# Altium schematic symbol library CPU_PowerPC.SchLib: 1 symbol
Pins are listed as number, name and electrical type; pins without a type are passive.

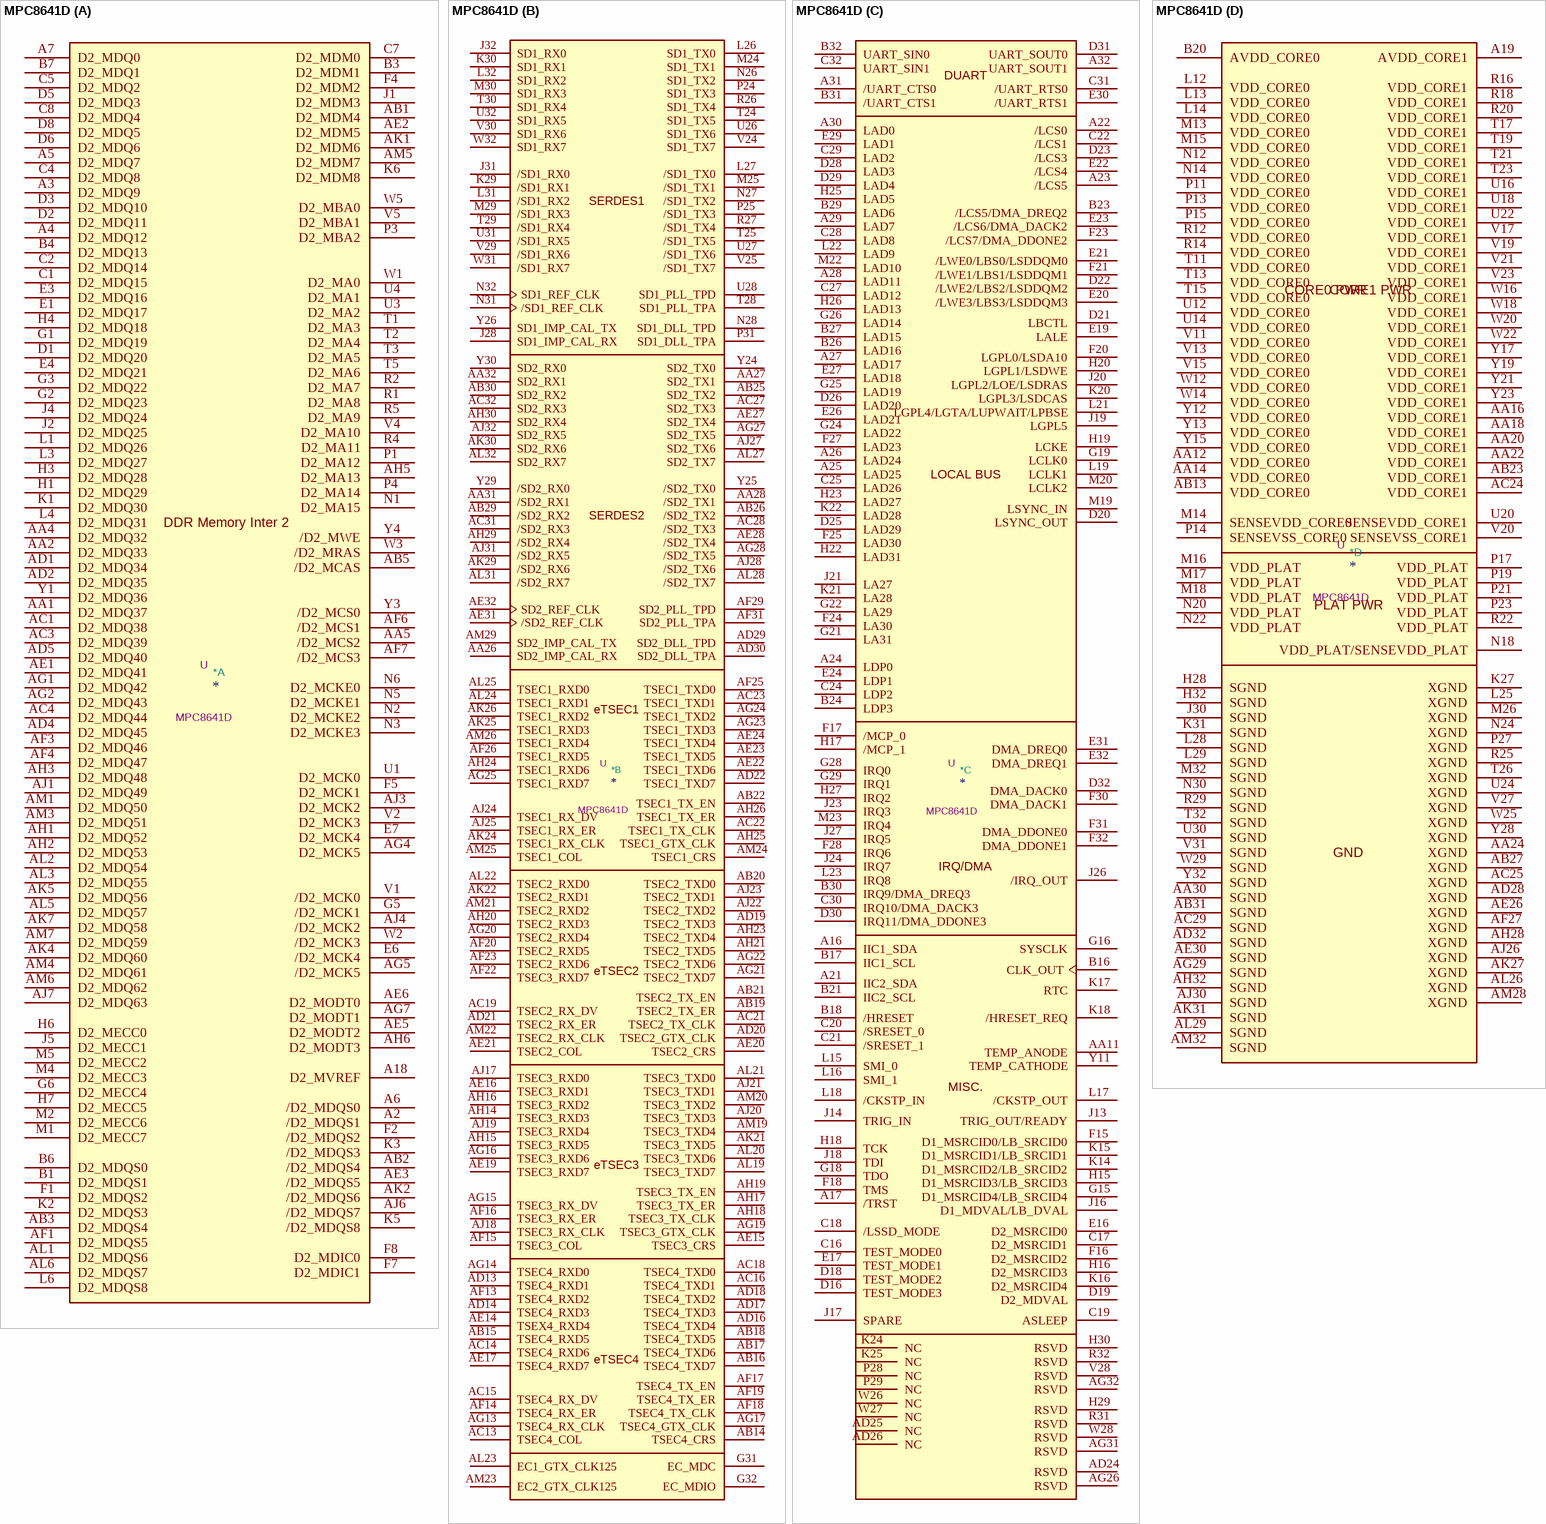
[diagram p0: symbol MPC8641D]

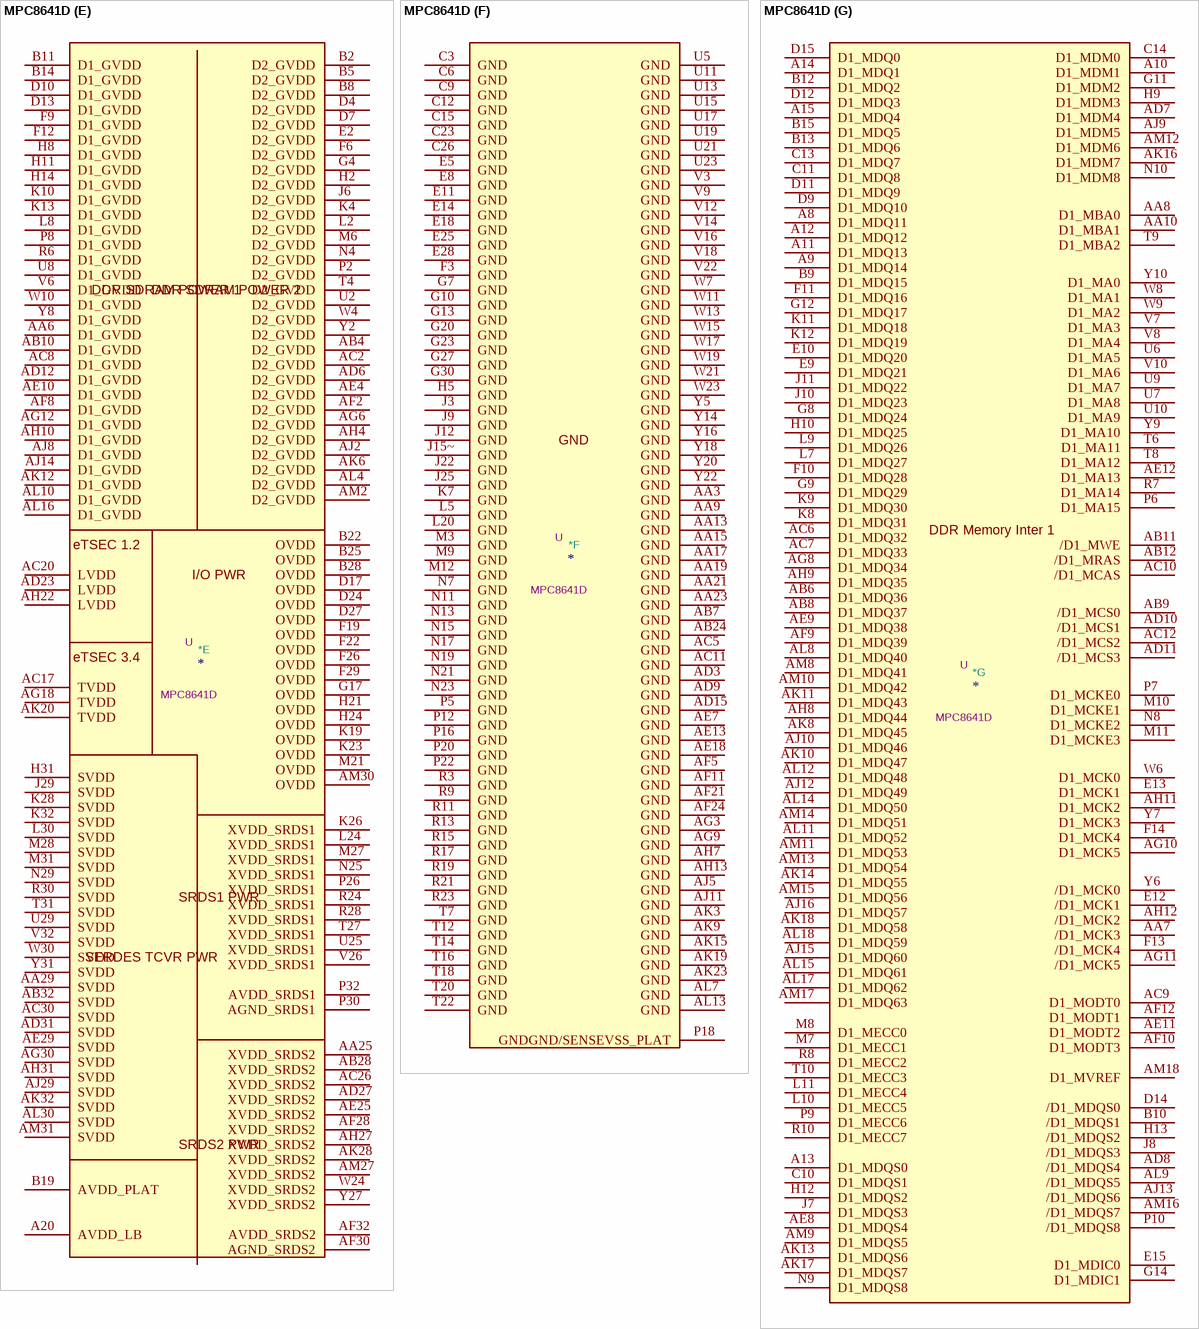
[diagram p1: symbol MPC8641D]

## MPC8641D
designator *  value MPC8641D  Reference: U
Freescale PowerPC E600 core, package BGA1023 pins pitch 1mm; Description_: Freescale PowerPC E600 core, package BGA1023 pins pitch 1mm; ki_keywords: POWERPC
part A pins: A2 /D2_MDQS1, A3 D2_MDQ9, A4 D2_MDQ12, A5 D2_MDQ7, A6 /D2_MDQS0, A7 D2_MDQ0, A18 D2_MVREF, AA1 D2_MDQ37, AA2 D2_MDQ33, AA4 D2_MDQ32, AA5 /D2_MCS2, AB1 D2_MDM4, AB2 /D2_MDQS4, AB3 D2_MDQS4, AB5 /D2_MCAS, AC1 D2_MDQ38, AC3 D2_MDQ39, AC4 D2_MDQ44, AD1 D2_MDQ34, AD2 D2_MDQ35, AD4 D2_MDQ45, AD5 D2_MDQ40, AE1 D2_MDQ41, AE2 D2_MDM5, AE3 /D2_MDQS5, AE5 D2_MODT2, AE6 D2_MODT0, AF1 D2_MDQS5, AF3 D2_MDQ46, AF4 D2_MDQ47, AF6 /D2_MCS1, AF7 /D2_MCS3, AG1 D2_MDQ42, AG2 D2_MDQ43, AG4 D2_MCK5, AG5 /D2_MCK5, AG7 D2_MODT1, AH1 D2_MDQ52, AH2 D2_MDQ53, AH3 D2_MDQ48, AH5 D2_MA13, AH6 D2_MODT3, AJ1 D2_MDQ49, AJ3 D2_MCK2, AJ4 /D2_MCK2, AJ6 /D2_MDQS7, AJ7 D2_MDQ63, AK1 D2_MDM6, AK2 /D2_MDQS6, AK4 D2_MDQ60, AK5 D2_MDQ56, AK7 D2_MDQ58, AL1 D2_MDQS6, AL2 D2_MDQ54, AL3 D2_MDQ55, AL5 D2_MDQ57, AL6 D2_MDQS7, AM1 D2_MDQ50, AM3 D2_MDQ51, AM4 D2_MDQ61, AM5 D2_MDM7, AM6 D2_MDQ62, AM7 D2_MDQ59, B1 D2_MDQS1, B3 D2_MDM1, B4 D2_MDQ13, B6 D2_MDQS0, B7 D2_MDQ1, C1 D2_MDQ15, C2 D2_MDQ14, C4 D2_MDQ8, C5 D2_MDQ2, C7 D2_MDM0, C8 D2_MDQ4, D1 D2_MDQ20, D2 D2_MDQ11, D3 D2_MDQ10, D5 D2_MDQ3, D6 D2_MDQ6, D8 D2_MDQ5, E1 D2_MDQ17, E3 D2_MDQ16, E4 D2_MDQ21, E6 /D2_MCK4, E7 D2_MCK4, F1 D2_MDQS2, F2 /D2_MDQS2, F4 D2_MDM2, F5 D2_MCK1, F7 D2_MDIC1, F8 D2_MDIC0, G1 D2_MDQ19, G2 D2_MDQ23, G3 D2_MDQ22, G5 /D2_MCK1, G6 D2_MECC4, H1 D2_MDQ29, H3 D2_MDQ28, H4 D2_MDQ18, H6 D2_MECC0, H7 D2_MECC5, J1 D2_MDM3, J2 D2_MDQ25, J4 D2_MDQ24, J5 D2_MECC1, K1 D2_MDQ30, K2 D2_MDQS3, K3 /D2_MDQS3, K5 /D2_MDQS8, K6 D2_MDM8, L1 D2_MDQ26, L3 D2_MDQ27, L4 D2_MDQ31, L6 D2_MDQS8, M1 D2_MECC7, M2 D2_MECC6, M4 D2_MECC3, M5 D2_MECC2, N1 D2_MA15, N2 D2_MCKE2, N3 D2_MCKE3, N5 D2_MCKE1, N6 D2_MCKE0, P1 D2_MA12, P3 D2_MBA2, P4 D2_MA14, R1 D2_MA8, R2 D2_MA7, R4 D2_MA11, R5 D2_MA9, T1 D2_MA3, T2 D2_MA4, T3 D2_MA5, T5 D2_MA6, U1 D2_MCK0, U3 D2_MA2, U4 D2_MA1, V1 /D2_MCK0, V2 D2_MCK3, V4 D2_MA10, V5 D2_MBA1, W1 D2_MA0, W2 /D2_MCK3, W3 /D2_MRAS, W5 D2_MBA0, Y1 D2_MDQ36, Y3 /D2_MCS0, Y4 /D2_MWE
part B pins: AA26 SD2_IMP_CAL_RX, AA27 SD2_TX1, AA28 /SD2_TX1, AA31 /SD2_RX1, AA32 SD2_RX1, AB14 TSEC4_CRS, AB15 TSEC4_RXD5, AB16 TSEC4_TXD7, AB17 TSEC4_TXD6, AB18 TSEC4_TXD5, AB19 TSEC2_TX_ER, AB20 TSEC2_TXD0, AB21 TSEC2_TX_EN, AB22 TSEC1_TX_EN, AB25 SD2_TX2, AB26 /SD2_TX2, AB29 /SD2_RX2, AB30 SD2_RX2, AC13 TSEC4_COL, AC14 TSEC4_RXD6, AC15 TSEC4_RX_DV, AC16 TSEC4_TXD1, AC18 TSEC4_TXD0, AC19 TSEC2_RX_DV, AC21 TSEC2_TX_CLK, AC22 TSEC1_TX_CLK, AC23 TSEC1_TXD1, AC27 SD2_TX3, AC28 /SD2_TX3, AC31 /SD2_RX3, AC32 SD2_RX3, AD13 TSEC4_RXD1, AD14 TSEC4_RXD3, AD16 TSEC4_TXD4, AD17 TSEC4_TXD3, AD18 TSEC4_TXD2, AD19 TSEC2_TXD3, AD20 TSEC2_GTX_CLK, AD21 TSEC2_RX_ER, AD22 TSEC1_TXD7, AD29 SD2_DLL_TPD, AD30 SD2_DLL_TPA, AE14 TSEX4_RXD4, AE15 TSEC3_CRS, AE16 TSEC3_RXD1, AE17 TSEC4_RXD7, AE19 TSEC3_RXD7, AE20 TSEC2_CRS, AE21 TSEC2_COL, AE22 TSEC1_TXD6, AE23 TSEC1_TXD5, AE24 TSEC1_TXD4, AE27 SD2_TX4, AE28 /SD2_TX4, AE31 /SD2_REF_CLK, AE32 SD2_REF_CLK, AF13 TSEC4_RXD2, AF14 TSEC4_RX_ER, AF15 TSEC3_COL, AF16 TSEC3_RX_ER, AF17 TSEC4_TX_EN, AF18 TSEC4_TX_CLK, AF19 TSEC4_TX_ER, AF20 TSEC2_RXD5, AF22 TSEC3_RXD7, AF23 TSEC2_RXD6, AF25 TSEC1_TXD0, AF26 TSEC1_RXD5, AF29 SD2_PLL_TPD, AF31 SD2_PLL_TPA, AG13 TSEC4_RX_CLK, AG14 TSEC4_RXD0, AG15 TSEC3_RX_DV, AG16 TSEC3_RXD6, AG17 TSEC4_GTX_CLK, AG19 TSEC3_GTX_CLK, AG20 TSEC2_RXD4, AG21 TSEC2_TXD7, AG22 TSEC2_TXD6, AG23 TSEC1_TXD3, AG24 TSEC1_TXD2, AG25 TSEC1_RXD7, AG27 SD2_TX5, AG28 /SD2_TX5, AH14 TSEC3_RXD3, AH15 TSEC3_RXD5, AH16 TSEC3_RXD2, AH17 TSEC3_TX_ER, AH18 TSEC3_TX_CLK, AH19 TSEC3_TX_EN, AH20 TSEC2_RXD3, AH21 TSEC2_TXD5, AH23 TSEC2_TXD4, AH24 TSEC1_RXD6, AH25 TSEC1_GTX_CLK, AH26 TSEC1_TX_ER, AH29 /SD2_RX4, AH30 SD2_RX4, AJ17 TSEC3_RXD0, AJ18 TSEC3_RX_CLK, AJ19 TSEC3_RXD4, AJ20 TSEC3_TXD3, AJ21 TSEC3_TXD1, AJ22 TSEC2_TXD2, AJ23 TSEC2_TXD1, AJ24 TSEC1_RX_DV, AJ25 TSEC1_RX_ER, AJ27 SD2_TX6, AJ28 /SD2_TX6, AJ31 /SD2_RX5, AJ32 SD2_RX5, AK21 TSEC3_TXD5, AK22 TSEC2_RXD1, AK24 TSEC1_RX_CLK, AK25 TSEC1_RXD3, AK26 TSEC1_RXD2, AK29 /SD2_RX6, AK30 SD2_RX6, AL19 TSEC3_TXD7, AL20 TSEC3_TXD6, AL21 TSEC3_TXD0, AL22 TSEC2_RXD0, AL23 EC1_GTX_CLK125, AL24 TSEC1_RXD1, AL25 TSEC1_RXD0, AL27 SD2_TX7, AL28 /SD2_TX7, AL31 /SD2_RX7, AL32 SD2_RX7, AM19 TSEC3_TXD4, AM20 TSEC3_TXD2, AM21 TSEC2_RXD2, AM22 TSEC2_RX_CLK, AM23 EC2_GTX_CLK125, AM24 TSEC1_CRS, AM25 TSEC1_COL, AM26 TSEC1_RXD4, AM29 SD2_IMP_CAL_TX, G31 EC_MDC, G32 EC_MDIO, J28 SD1_IMP_CAL_RX, J31 /SD1_RX0, J32 SD1_RX0, K29 /SD1_RX1, K30 SD1_RX1, L26 SD1_TX0, L27 /SD1_TX0, L31 /SD1_RX2, L32 SD1_RX2, M24 SD1_TX1, M25 /SD1_TX1, M29 /SD1_RX3, M30 SD1_RX3, N26 SD1_TX2, N27 /SD1_TX2, N28 SD1_DLL_TPD, N31 /SD1_REF_CLK, N32 SD1_REF_CLK, P24 SD1_TX3, P25 /SD1_TX3, P31 SD1_DLL_TPA, R26 SD1_TX4, R27 /SD1_TX4, T24 SD1_TX5, T25 /SD1_TX5, T28 SD1_PLL_TPA, T29 /SD1_RX4, T30 SD1_RX4, U26 SD1_TX6, U27 /SD1_TX6, U28 SD1_PLL_TPD, U31 /SD1_RX5, U32 SD1_RX5, V24 SD1_TX7, V25 /SD1_TX7, V29 /SD1_RX6, V30 SD1_RX6, W31 /SD1_RX7, W32 SD1_RX7, Y24 SD2_TX0, Y25 /SD2_TX0, Y26 SD1_IMP_CAL_TX, Y29 /SD2_RX0, Y30 SD2_RX0
part C pins: A16 IIC1_SDA, A17 /TRST, A21 IIC2_SDA, A22 /LCS0, A23 /LCS5, A24 LDP0, A25 LAD25, A26 LAD24, A27 LAD17, A28 LAD11, A29 LAD7, A30 LAD0, A31 /UART_CTS0, A32 UART_SOUT1, AA11 TEMP_ANODE, AD24 RSVD, AD25 NC, AD26 NC, AG26 RSVD, AG31 RSVD, AG32 RSVD, B16 CLK_OUT, B17 IIC1_SCL, B18 /HRESET, B21 IIC2_SCL, B23 /LCS5/DMA_DREQ2, B24 LDP3, B26 LAD16, B27 LAD15, B29 LAD6, B30 IRQ9/DMA_DREQ3, B31 /UART_CTS1, B32 UART_SIN0, C16 TEST_MODE0, C17 D2_MSRCID1, C18 /LSSD_MODE, C19 ASLEEP, C20 /SRESET_0, C21 /SRESET_1, C22 /LCS1, C24 LDP2, C25 LAD26, C27 LAD12, C28 LAD8, C29 LAD2, C30 IRQ10/DMA_DACK3, C31 /UART_RTS0, C32 UART_SIN1, D16 TEST_MODE3, D18 TEST_MODE2, D19 D2_MDVAL, D20 LSYNC_OUT, D21 LBCTL, D22 /LWE2/LBS2/LSDDQM2, D23 /LCS3, D25 LAD29, D26 LAD20, D28 LAD3, D29 LAD4, D30 IRQ11/DMA_DDONE3, D31 UART_SOUT0, D32 DMA_DACK0, E16 D2_MSRCID0, E17 TEST_MODE1, E19 LALE, E20 /LWE3/LBS3/LSDDQM3, E21 /LWE0/LBS0/LSDDQM0, E22 /LCS4, E23 /LCS6/DMA_DACK2, E24 LDP1, E26 LAD21, E27 LAD18, E29 LAD1, E30 /UART_RTS1, E31 DMA_DREQ0, E32 DMA_DREQ1, F15 D1_MSRCID0/LB_SRCID0, F16 D2_MSRCID2, F17 /MCP_0, F18 TMS, F20 LGPL0/LSDA10, F21 /LWE1/LBS1/LSDDQM1, F23 /LCS7/DMA_DDONE2, F24 LA30, F25 LAD30, F27 LAD23, F28 IRQ6, F30 DMA_DACK1, F31 DMA_DDONE0, F32 DMA_DDONE1, G15 D1_MSRCID4/LB_SRCID4, G16 SYSCLK, G18 TDO, G19 LCLK0, G21 LA31, G22 LA29, G24 LAD22, G25 LAD19, G26 LAD14, G28 IRQ0, G29 IRQ1, H15 D1_MSRCID3/LB_SRCID3, H16 D2_MSRCID3, H17 /MCP_1, H18 TCK, H19 LCKE, H20 LGPL1/LSDWE, H22 LAD31, H23 LAD27, H25 LAD5, H26 LAD13, H27 IRQ2, H29 RSVD, H30 RSVD, J13 TRIG_OUT/READY, J14 TRIG_IN, J16 D1_MDVAL/LB_DVAL, J17 SPARE, J18 TDI, J19 LGPL5, J20 LGPL2/LOE/LSDRAS, J21 LA27, J23 IRQ3, J24 IRQ7, J26 /IRQ_OUT, J27 IRQ5, K14 D1_MSRCID2/LB_SRCID2, K15 D1_MSRCID1/LB_SRCID1, K16 D2_MSRCID4, K17 RTC, K18 /HRESET_REQ, K20 LGPL3/LSDCAS, K21 LA28, K22 LAD28, K24 NC, K25 NC, L15 SMI_0, L16 SMI_1, L17 /CKSTP_OUT, L18 /CKSTP_IN, L19 LCLK1, L21 LGPL4/LGTA/LUPWAIT/LPBSE, L22 LAD9, L23 IRQ8, M19 LSYNC_IN, M20 LCLK2, M22 LAD10, M23 IRQ4, P28 NC, P29 NC, R31 RSVD, R32 RSVD, V28 RSVD, W26 NC, W27 NC, W28 RSVD, Y11 TEMP_CATHODE
part D pins: A19 AVDD_CORE1, AA12 VDD_CORE0, AA14 VDD_CORE0, AA16 VDD_CORE1, AA18 VDD_CORE1, AA20 VDD_CORE1, AA22 VDD_CORE1, AA24 XGND, AA30 SGND, AB13 VDD_CORE0, AB23 VDD_CORE1, AB27 XGND, AB31 SGND, AC24 VDD_CORE1, AC25 XGND, AC29 SGND, AD28 XGND, AD32 SGND, AE26 XGND, AE30 SGND, AF27 XGND, AG29 SGND, AH28 XGND, AH32 SGND, AJ26 XGND, AJ30 SGND, AK27 XGND, AK31 SGND, AL26 XGND, AL29 SGND, AM28 XGND, AM32 SGND, B20 AVDD_CORE0, H28 SGND, H32 SGND, J30 SGND, K27 XGND, K31 SGND, L12 VDD_CORE0, L13 VDD_CORE0, L14 VDD_CORE0, L25 XGND, L28 SGND, L29 SGND, M13 VDD_CORE0, M14 SENSEVDD_CORE0, M15 VDD_CORE0, M16 VDD_PLAT, M17 VDD_PLAT, M18 VDD_PLAT, M26 XGND, M32 SGND, N12 VDD_CORE0, N14 VDD_CORE0, N18 VDD_PLAT/SENSEVDD_PLAT, N20 VDD_PLAT, N22 VDD_PLAT, N24 XGND, N30 SGND, P11 VDD_CORE0, P13 VDD_CORE0, P14 SENSEVSS_CORE0, P15 VDD_CORE0, P17 VDD_PLAT, P19 VDD_PLAT, P21 VDD_PLAT, P23 VDD_PLAT, P27 XGND, R12 VDD_CORE0, R14 VDD_CORE0, R16 VDD_CORE1, R18 VDD_CORE1, R20 VDD_CORE1, R22 VDD_PLAT, R25 XGND, R29 SGND, T11 VDD_CORE0, T13 VDD_CORE0, T15 VDD_CORE0, T17 VDD_CORE1, T19 VDD_CORE1, T21 VDD_CORE1, T23 VDD_CORE1, T26 XGND, T32 SGND, U12 VDD_CORE0, U14 VDD_CORE0, U16 VDD_CORE1, U18 VDD_CORE1, U20 SENSEVDD_CORE1, U22 VDD_CORE1, U24 XGND, U30 SGND, V11 VDD_CORE0, V13 VDD_CORE0, V15 VDD_CORE0, V17 VDD_CORE1, V19 VDD_CORE1, V20 SENSEVSS_CORE1, V21 VDD_CORE1, V23 VDD_CORE1, V27 XGND, V31 SGND, W12 VDD_CORE0, W14 VDD_CORE0, W16 VDD_CORE1, W18 VDD_CORE1, W20 VDD_CORE1, W22 VDD_CORE1, W25 XGND, W29 SGND, Y12 VDD_CORE0, Y13 VDD_CORE0, Y15 VDD_CORE0, Y17 VDD_CORE1, Y19 VDD_CORE1, Y21 VDD_CORE1, Y23 VDD_CORE1, Y28 XGND, Y32 SGND
part E pins: A20 AVDD_LB, AA6 D1_GVDD, AA25 XVDD_SRDS2, AA29 SVDD, AB4 D2_GVDD, AB10 D1_GVDD, AB28 XVDD_SRDS2, AB32 SVDD, AC2 D2_GVDD, AC8 D1_GVDD, AC17 TVDD, AC20 LVDD, AC26 XVDD_SRDS2, AC30 SVDD, AD6 D2_GVDD, AD12 D1_GVDD, AD23 LVDD, AD27 XVDD_SRDS2, AD31 SVDD, AE4 D2_GVDD, AE10 D1_GVDD, AE25 XVDD_SRDS2, AE29 SVDD, AF2 D2_GVDD, AF8 D1_GVDD, AF28 XVDD_SRDS2, AF30 AGND_SRDS2, AF32 AVDD_SRDS2, AG6 D2_GVDD, AG12 D1_GVDD, AG18 TVDD, AG30 SVDD, AH4 D2_GVDD, AH10 D1_GVDD, AH22 LVDD, AH27 XVDD_SRDS2, AH31 SVDD, AJ2 D2_GVDD, AJ8 D1_GVDD, AJ14 D1_GVDD, AJ29 SVDD, AK6 D2_GVDD, AK12 D1_GVDD, AK20 TVDD, AK28 XVDD_SRDS2, AK32 SVDD, AL4 D2_GVDD, AL10 D1_GVDD, AL16 D1_GVDD, AL30 SVDD, AM2 D2_GVDD, AM27 XVDD_SRDS2, AM30 OVDD, AM31 SVDD, B2 D2_GVDD, B5 D2_GVDD, B8 D2_GVDD, B11 D1_GVDD, B14 D1_GVDD, B19 AVDD_PLAT, B22 OVDD, B25 OVDD, B28 OVDD, D4 D2_GVDD, D7 D2_GVDD, D10 D1_GVDD, D13 D1_GVDD, D17 OVDD, D24 OVDD, D27 OVDD, E2 D2_GVDD, F6 D2_GVDD, F9 D1_GVDD, F12 D1_GVDD, F19 OVDD, F22 OVDD, F26 OVDD, F29 OVDD, G4 D2_GVDD, G17 OVDD, H2 D2_GVDD, H8 D1_GVDD, H11 D1_GVDD, H14 D1_GVDD, H21 OVDD, H24 OVDD, H31 SVDD, J6 D2_GVDD, J29 SVDD, K4 D2_GVDD, K10 D1_GVDD, K13 D1_GVDD, K19 OVDD, K23 OVDD, K26 XVDD_SRDS1, K28 SVDD, K32 SVDD, L2 D2_GVDD, L8 D1_GVDD, L24 XVDD_SRDS1, L30 SVDD, M6 D2_GVDD, M21 OVDD, M27 XVDD_SRDS1, M28 SVDD, M31 SVDD, N4 D2_GVDD, N25 XVDD_SRDS1, N29 SVDD, P2 D2_GVDD, P8 D1_GVDD, P26 XVDD_SRDS1, P30 AGND_SRDS1, P32 AVDD_SRDS1, R6 D1_GVDD, R24 XVDD_SRDS1, R28 XVDD_SRDS1, R30 SVDD, T4 D2_GVDD, T27 XVDD_SRDS1, T31 SVDD, U2 D2_GVDD, U8 D1_GVDD, U25 XVDD_SRDS1, U29 SVDD, V6 D1_GVDD, V26 XVDD_SRDS1, V32 SVDD, W4 D2_GVDD, W10 D1_GVDD, W24 XVDD_SRDS2, W30 SVDD, Y2 D2_GVDD, Y8 D1_GVDD, Y27 XVDD_SRDS2, Y31 SVDD
part F pins: AA3 GND, AA9 GND, AA13 GND, AA15 GND, AA17 GND, AA19 GND, AA21 GND, AA23 GND, AB7 GND, AB24 GND, AC5 GND, AC11 GND, AD3 GND, AD9 GND, AD15 GND, AE7 GND, AE13 GND, AE18 GND, AF5 GND, AF11 GND, AF21 GND, AF24 GND, AG3 GND, AG9 GND, AH7 GND, AH13 GND, AJ5 GND, AJ11 GND, AK3 GND, AK9 GND, AK15 GND, AK19 GND, AK23 GND, AL7 GND, AL13 GND, C3 GND, C6 GND, C9 GND, C12 GND, C15 GND, C23 GND, C26 GND, E5 GND, E8 GND, E11 GND, E14 GND, E18 GND, E25 GND, E28 GND, F3 GND, G7 GND, G10 GND, G13 GND, G20 GND, G23 GND, G27 GND, G30 GND, H5 GND, J3 GND, J9 GND, J12 GND, J15~ GND, J22 GND, J25 GND, K7 GND, L5 GND, L20 GND, M3 GND, M9 GND, M12 GND, N7 GND, N11 GND, N13 GND, N15 GND, N17 GND, N19 GND, N21 GND, N23 GND, P5 GND, P12 GND, P16 GND, P18 GNDGND/SENSEVSS_PLAT, P20 GND, P22 GND, R3 GND, R9 GND, R11 GND, R13 GND, R15 GND, R17 GND, R19 GND, R21 GND, R23 GND, T7 GND, T12 GND, T14 GND, T16 GND, T18 GND, T20 GND, T22 GND, U5 GND, U11 GND, U13 GND, U15 GND, U17 GND, U19 GND, U21 GND, U23 GND, V3 GND, V9 GND, V12 GND, V14 GND, V16 GND, V18 GND, V22 GND, W7 GND, W11 GND, W13 GND, W15 GND, W17 GND, W19 GND, W21 GND, W23 GND, Y5 GND, Y14 GND, Y16 GND, Y18 GND, Y20 GND, Y22 GND
part G pins: A8 D1_MDQ11, A9 D1_MDQ14, A10 D1_MDM1, A11 D1_MDQ13, A12 D1_MDQ12, A13 D1_MDQS0, A14 D1_MDQ1, A15 D1_MDQ4, AA7 /D1_MCK3, AA8 D1_MBA0, AA10 D1_MBA1, AB6 D1_MDQ36, AB8 D1_MDQ37, AB9 /D1_MCS0, AB11 /D1_MWE, AB12 /D1_MRAS, AC6 D1_MDQ32, AC7 D1_MDQ33, AC9 D1_MODT0, AC10 /D1_MCAS, AC12 /D1_MCS2, AD7 D1_MDM4, AD8 /D1_MDQS4, AD10 /D1_MCS1, AD11 /D1_MCS3, AE8 D1_MDQS4, AE9 D1_MDQ38, AE11 D1_MODT2, AE12 D1_MA13, AF9 D1_MDQ39, AF10 D1_MODT3, AF12 D1_MODT1, AG8 D1_MDQ34, AG10 D1_MCK5, AG11 /D1_MCK5, AH8 D1_MDQ44, AH9 D1_MDQ35, AH11 D1_MCK2, AH12 /D1_MCK2, AJ9 D1_MDM5, AJ10 D1_MDQ46, AJ12 D1_MDQ49, AJ13 /D1_MDQS6, AJ15 D1_MDQ60, AJ16 D1_MDQ57, AK8 D1_MDQ45, AK10 D1_MDQ47, AK11 D1_MDQ43, AK13 D1_MDQS6, AK14 D1_MDQ55, AK16 D1_MDM7, AK17 D1_MDQS7, AK18 D1_MDQ58, AL8 D1_MDQ40, AL9 /D1_MDQS5, AL11 D1_MDQ52, AL12 D1_MDQ48, AL14 D1_MDQ50, AL15 D1_MDQ61, AL17 D1_MDQ62, AL18 D1_MDQ59, AM8 D1_MDQ41, AM9 D1_MDQS5, AM10 D1_MDQ42, AM11 D1_MDQ53, AM12 D1_MDM6, AM13 D1_MDQ54, AM14 D1_MDQ51, AM15 D1_MDQ56, AM16 /D1_MDQS7, AM17 D1_MDQ63, AM18 D1_MVREF, B9 D1_MDQ15, B10 /D1_MDQS1, B12 D1_MDQ2, B13 D1_MDQ6, B15 D1_MDQ5, C10 D1_MDQS1, C11 D1_MDQ8, C13 D1_MDQ7, C14 D1_MDM0, D9 D1_MDQ10, D11 D1_MDQ9, D12 D1_MDQ3, D14 /D1_MDQS0, D15 D1_MDQ0, E9 D1_MDQ21, E10 D1_MDQ20, E12 /D1_MCK1, E13 D1_MCK1, E15 D1_MDIC0, F10 D1_MDQ28, F11 D1_MDQ16, F13 /D1_MCK4, F14 D1_MCK4, G8 D1_MDQ24, G9 D1_MDQ29, G11 D1_MDM2, G12 D1_MDQ17, G14 D1_MDIC1, H9 D1_MDM3, H10 D1_MDQ25, H12 D1_MDQS2, H13 /D1_MDQS2, J7 D1_MDQS3, J8 /D1_MDQS3, J10 D1_MDQ23, J11 D1_MDQ22, K8 D1_MDQ31, K9 D1_MDQ30, K11 D1_MDQ18, K12 D1_MDQ19, L7 D1_MDQ27, L9 D1_MDQ26, L10 D1_MECC5, L11 D1_MECC4, M7 D1_MECC1, M8 D1_MECC0, M10 D1_MCKE1, M11 D1_MCKE3, N8 D1_MCKE2, N9 D1_MDQS8, N10 D1_MDM8, P6 D1_MA15, P7 D1_MCKE0, P9 D1_MECC6, P10 /D1_MDQS8, R7 D1_MA14, R8 D1_MECC2, R10 D1_MECC7, T6 D1_MA11, T8 D1_MA12, T9 D1_MBA2, T10 D1_MECC3, U6 D1_MA5, U7 D1_MA8, U9 D1_MA7, U10 D1_MA9, V7 D1_MA3, V8 D1_MA4, V10 D1_MA6, W6 D1_MCK0, W8 D1_MA1, W9 D1_MA2, Y6 /D1_MCK0, Y7 D1_MCK3, Y9 D1_MA10, Y10 D1_MA0
part A text: DDR Memory Inter 2
part B text: SERDES1; SERDES2; eTSEC1; eTSEC2; eTSEC3; eTSEC4
part C text: DUART; LOCAL BUS; IRQ/DMA; MISC.
part D text: CORE0 PWR; CORE1 PWR; PLAT PWR
part E text: DDR SDRAM POWER 1; DDR SDRAM POWER 2; eTSEC 1.2; I/O PWR; eTSEC 3.4; SRDS1 PWR; SERDES TCVR PWR; SRDS2 PWR
part G text: DDR Memory Inter 1